# EAGLE library part SWITCH-EG2211 (library TEABOX-LIB)
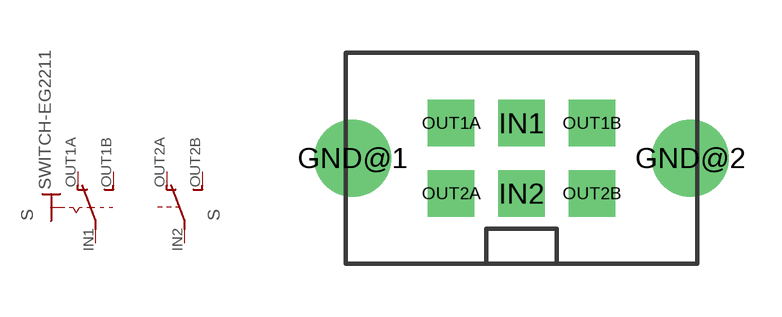
[diagram p0: symbol with the pads of SWITCH-EG2211; footprint SWITCH-EG2211]

Designator prefix S; gates SWITCH1=KS-U- SWITCH2=U2

## SWITCH-EG2211  [SWITCH-EG2211]
IN1  SWITCH1:P  pas
IN2  SWITCH2:P  pas
OUT1A  SWITCH1:O  pas
OUT1B  SWITCH1:S  pas
OUT2A  SWITCH2:O  pas
OUT2B  SWITCH2:S  pas

## Footprint SWITCH-EG2211 (pad centres in mm)
drill 1.422 pad 2.184 round: GND@1 -4.8,0; GND@2 4.8,0
drill 0.813 pad 0.813 square: IN1 0,1; IN2 0,-1; OUT1A -2,1; OUT1B 2,1; OUT2A -2,-1; OUT2B 2,-1